# Altium footprint library Resistor_SMD.PcbLib: 4 footprints
Each footprint in its own frame and in the unit in brackets; x right, y up, seen from the top. Pads: shape width x height; smd on the part's side, far side on the other; paste and mask are expansions set on the pad; w line width, h text height; cw(c..) or ccw(c..) is an arc to the next point about the centre after c.
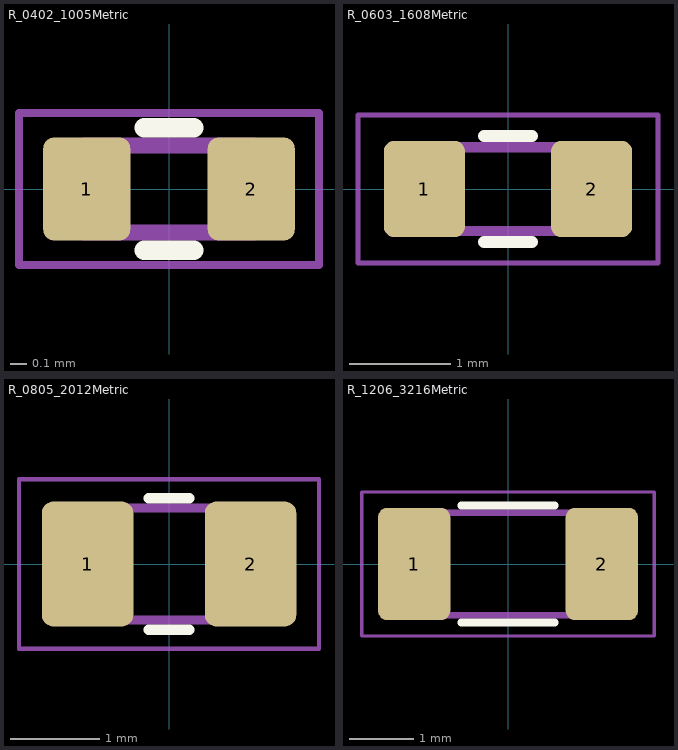
[diagram p0: the footprints below, top view; thin cyan lines are the x and y axes]

## R_0402_1005Metric [mm]
pads (2):
  rrect25% 0.54x0.64 smd: 1(-0.51,0) 2(0.51,0)
Top Overlay:
  lines w0.12: -0.154,-0.38 0.154,-0.38 ; -0.154,0.38 0.154,0.38
Mechanical 13:
  lines w0.1: -0.525,-0.27 -0.525,0.27 0.525,0.27 0.525,-0.27 -0.525,-0.27
Mechanical 15:
  lines w0.05: -0.93,-0.47 0.93,-0.47 0.93,0.47 -0.93,0.47 -0.93,-0.47
3D body "R_0402_1005Metric.step": height 0.35, standoff 0, extent -0.5,-0.25 0.5,0.25

## R_0603_1608Metric [mm]
pads (2):
  rrect25% 0.8x0.95 smd: 1(-0.825,0) 2(0.825,0)
Top Overlay:
  lines w0.12: -0.237,-0.523 0.237,-0.523 ; -0.237,0.523 0.237,0.523
Mechanical 13:
  lines w0.1: -0.8,-0.413 -0.8,0.413 0.8,0.413 0.8,-0.413 -0.8,-0.413
Mechanical 15:
  lines w0.05: -1.48,-0.73 1.48,-0.73 1.48,0.73 -1.48,0.73 -1.48,-0.73
3D body "R_0603_1608Metric.step": height 0.45, standoff 0, extent -0.8,-0.4 0.8,0.4

## R_0805_2012Metric [mm]
pads (2):
  rrect25% 1.025x1.4 smd: 1(-0.913,0) 2(0.913,0)
Top Overlay:
  lines w0.12: -0.227,-0.735 0.227,-0.735 ; -0.227,0.735 0.227,0.735
Mechanical 13:
  lines w0.1: -1,-0.625 1,-0.625 1,0.625 -1,0.625 -1,-0.625
Mechanical 15:
  lines w0.05: -1.68,-0.95 -1.68,0.95 1.68,0.95 1.68,-0.95 -1.68,-0.95
3D body "R_0805_2012Metric.step": height 0.45, standoff 0, extent -1,-0.6 1,0.6

## R_1206_3216Metric [mm]
pads (2):
  rrect25% 1.125x1.75 smd: 1(-1.462,0) 2(1.462,0)
Top Overlay:
  lines w0.12: -0.727,-0.91 0.727,-0.91 ; -0.727,0.91 0.727,0.91
Mechanical 13:
  lines w0.1: -1.6,-0.8 1.6,-0.8 1.6,0.8 -1.6,0.8 -1.6,-0.8
Mechanical 15:
  lines w0.05: -2.28,-1.12 2.28,-1.12 2.28,1.12 -2.28,1.12 -2.28,-1.12
3D body "R_1206_3216Metric.step": height 0.55, standoff 0, extent -1.6,-0.8 1.6,0.8